# Altium footprint library DM3CS-SF.PcbLib: 1 footprints
Each footprint in its own frame and in the unit in brackets; x right, y up, seen from the top. Pads: shape width x height; smd on the part's side, far side on the other; paste and mask are expansions set on the pad; w line width, h text height; cw(c..) or ccw(c..) is an arc to the next point about the centre after c.
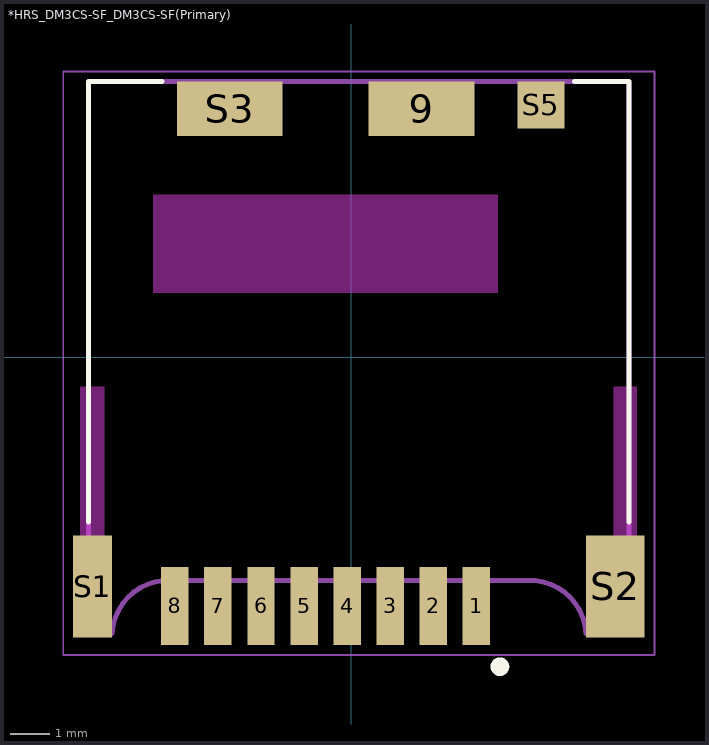
[diagram p0: the footprint, top view; thin cyan lines are the x and y axes]

## *HRS_DM3CS-SF_DM3CS-SF(Primary) [mm]
pads (13):
  rect 0.7x2 smd: 1(3.2,-6.35) 2(2.1,-6.35) 3(1,-6.35) 4(-0.1,-6.35) 5(-1.2,-6.35) 6(-2.3,-6.35) 7(-3.4,-6.35) 8(-4.5,-6.35)
  rect 2.7x1.4 smd: 9(1.8,6.35) S3(-3.1,6.35)
  rect 1x2.6 smd: S1(-6.6,-5.85)
  rect 1.5x2.6 smd: S2(6.75,-5.85)
  rect 1.2x1.2 smd: S5(4.85,6.45)
Top Overlay:
  circle w0.24: c3.8,-7.9 r0.12
  lines w0.127: -6.7,-4.2 -6.7,7.05 -4.826,7.05 ; 5.7,7.05 7.1,7.05 7.1,-4.2
Keep-Out Layer:
  region: 6.712,-0.75 7.3,-0.75 7.3,-4.558 6.712,-4.558
  region: -6.912,-0.75 -6.3,-0.75 -6.3,-4.558 -6.912,-4.558
  region: 6.709,-0.75 7.3,-0.75 7.3,-4.556 6.709,-4.556
  region: -6.912,-0.75 -6.3,-0.75 -6.3,-4.558 -6.912,-4.558
  region: -5.053,4.15 3.75,4.15 3.75,1.651 -5.053,1.651
  region: -5.051,4.15 3.75,4.15 3.75,1.65 -5.051,1.65
  region: 6.712,-0.75 7.3,-0.75 7.3,-4.558 6.712,-4.558
  region: -6.912,-0.75 -6.3,-0.75 -6.3,-4.558 -6.912,-4.558
  region: 6.709,-0.75 7.3,-0.75 7.3,-4.556 6.709,-4.556
  region: -6.912,-0.75 -6.3,-0.75 -6.3,-4.558 -6.912,-4.558
  region: -5.053,4.15 3.75,4.15 3.75,1.651 -5.053,1.651
  region: -5.051,4.15 3.75,4.15 3.75,1.65 -5.051,1.65
  region: 6.712,-0.75 7.3,-0.75 7.3,-4.558 6.712,-4.558
  region: -6.912,-0.75 -6.3,-0.75 -6.3,-4.558 -6.912,-4.558
  region: 6.709,-0.75 7.3,-0.75 7.3,-4.556 6.709,-4.556
  region: -6.912,-0.75 -6.3,-0.75 -6.3,-4.558 -6.912,-4.558
  region: -5.053,4.15 3.75,4.15 3.75,1.651 -5.053,1.651
  region: -5.051,4.15 3.75,4.15 3.75,1.65 -5.051,1.65
Mechanical 13:
  lines w0.127: -6.7,-7.05 -6.7,7.05 ; -6.7,-7.05 -6.1,-7.05 ; -6.7,-7.05 -6.7,7.05 ; -6.7,-7.05 -6.1,-7.05 ; -6.7,7.05 7.1,7.05 ; -6.7,7.05 7.1,7.05 ; -6.1,-7.05 cw(c-4.675,-7.125) -4.6,-5.7 ; -6.1,-7.05 cw(c-4.675,-7.125) -4.6,-5.7 ; -4.6,-5.7 4.5,-5.7 -4.6,-5.7 ; 6,-7.05 ccw(c4.575,-7.125) 4.5,-5.7 cw(c4.575,-7.125) 6,-7.05 ; 6,-7.05 7.1,-7.05 ; 6,-7.05 7.1,-7.05 ; 7.1,-7.05 7.1,7.05 ; 7.1,-7.05 7.1,7.05
Mechanical 15:
  lines w0.05: -7.35,-7.6 7.75,-7.6 7.75,7.3 -7.35,7.3 -7.35,-7.6